# EAGLE library part 046293609005829+ (library 046293609005829+)
FFC & FPC Connectors 9P 0.3mm RA SMD Dual Sided Contact Source: Datasheet <https://www.mouser.com/datasheet/2/909/6293-1381189.pdf>
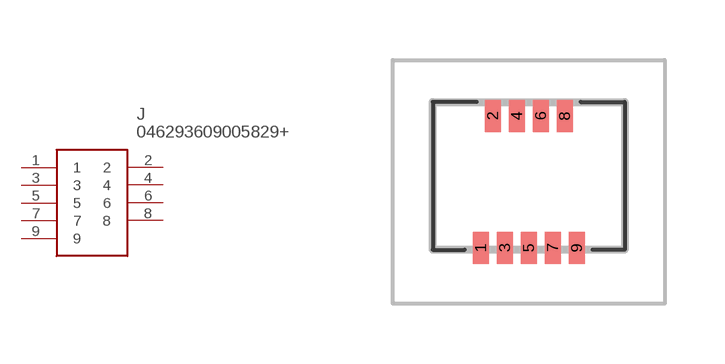
[diagram p0: symbol with the pads of 046293609005829; footprint 046293609005829]

Designator prefix J

## 046293609005829+ (Description: FFC & FPC Connectors 9P 0.3mm RA SMD Dual Sided Contact; Height: 1.54mm; Manufacturer_Name: Kyocera Electronic Components; Manufacturer_Part_Number: 046293609005829+; Mouser_Part_Number: 581-046293609005829+; Mouser_Price-Stock: https://www.mouser.com/Search/Refine.aspx?Keyword=581-046293609005829%2B)  [046293609005829]
1  1
2  2
3  3
4  4
5  5
6  6
7  7
8  8
9  9

## Footprint 046293609005829 (pad centres in mm)
046293609005829+-2
smd 0.4 x 0.8: 1 -1.2,-1.65; 2 -0.9,1.65; 3 -0.6,-1.65; 4 -0.3,1.65; 5 0,-1.65; 6 0.3,1.65; 7 0.6,-1.65; 8 0.9,1.65; 9 1.2,-1.65